# Altium schematic symbol library M20-7821046.SchLib: 1 symbol
Pins are listed as number, name and electrical type; pins without a type are passive.

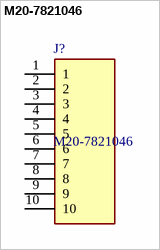
[diagram p0: symbol M20-7821046]

## M20-7821046
designator J?
M20 Socket, Sil, Vertical,10W,2.54Mm HARWIN 2.54mm 10 Way 1 Row Straight PCB Socket Through Hole Socket Strip; Geometry.Height: 8.65mm; Manufacturer_Name: Harwin; Manufacturer_Part_Number: M20-7821046; Mouser Part Number: 855-M20-7821046; Mouser Price/Stock: https://www.mouser.co.uk/ProductDetail/Harwin/M20-7821046?qs=Jph8NoUxIfXTsFl0wvOA6g%3D%3D; Arrow Part Number: *; Arrow Price/Stock: *; Datasheet Link: https://cdn.harwin.com/pdfs/M20-782.pdf
footprint RHDR10W70P0X254_1X10_2580X250X865P
pins: 1, 2, 3, 4, 5, 6, 7, 8, 9, 10